# EAGLE library part 74*3G04 (library svBGC)
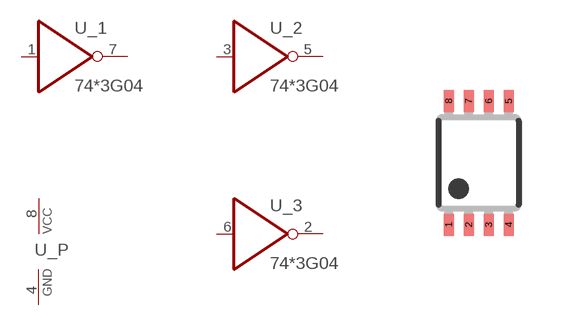
[diagram p13: symbol with the pads of R-PDSO-G8; footprint R-PDSO-G8]

Designator prefix -; gates _1=7404 _2=7404 _3=7404 _P=PWRN

## 74AUP3G04  [R-PDSO-G8]
1  _1:A  in
2  _3:Y  out
3  _2:A  in
4  _P:GND  pwr
5  _2:Y  out
6  _3:A  in
7  _1:Y  out
8  _P:VCC  pwr

## Footprint R-PDSO-G8 (pad centres in mm)
PLASTIC SMALL-OUTLINE PACKAGE
smd 0.25 x 0.55: 1 -0.75,-1.55; 2 -0.25,-1.55; 3 0.25,-1.55; 4 0.75,-1.55; 5 0.75,1.55; 6 0.25,1.55; 7 -0.25,1.55; 8 -0.75,1.55